# Altium schematic symbol library PR13-12V-450-1C.SchLib: 1 symbol
Pins are listed as number, name and electrical type; pins without a type are passive.

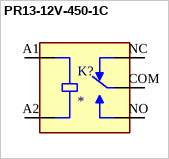
[diagram p0: symbol PR13-12V-450-1C]

## PR13-12V-450-1C
designator K?
19 x 15.5 x 15.8 mm, 12 V, 10 A, SPDT (1 Form C), Power Relay; MF: Same Sky; MP: PR13-12V-450-1C; SnapEDA_Link: https://www.snapeda.com/parts/PR13-12V-450-1C/Same+Sky/view-part/?ref=snap; Package: None; Value: *; Check_prices: https://www.snapeda.com/parts/PR13-12V-450-1C/Same+Sky/view-part/?ref=eda
footprint RELAY_PR13-12V-450-1C
pins: A1 COIL1, A2 COIL2, COM, NC, NO